# Altium footprint library TE-5406721.PcbLib: 1 footprints
Each footprint in its own frame and in the unit in brackets; x right, y up, seen from the top. Pads: shape width x height; smd on the part's side, far side on the other; paste and mask are expansions set on the pad; w line width, h text height; cw(c..) or ccw(c..) is an arc to the next point about the centre after c.
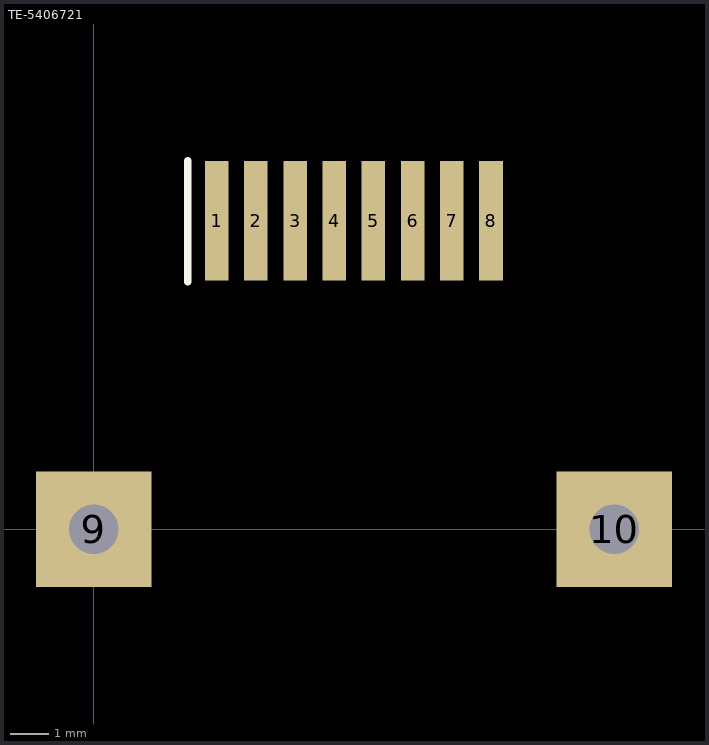
[diagram p0: the footprint, top view; thin cyan lines are the x and y axes]

## TE-5406721 [mm]
pads (10):
  rect 0.61x3.1 smd: 1(3.19,8) 2(4.206,8) 3(5.222,8) 4(6.238,8) 5(7.254,8) 6(8.27,8) 7(9.286,8) 8(10.302,8)
  rect 3x3 hole 1.28: 9(0,0) 10(13.5,0)
Top Overlay:
  lines w0.2: 2.438,6.42 2.438,9.55
3D body: height 12.45, standoff -1.08, extent -1.718,-5.563 15.282,8.907